# Altium footprint library 470uF.PcbLib: 1 footprints
Each footprint in its own frame and in the unit in brackets; x right, y up, seen from the top. Pads: shape width x height; smd on the part's side, far side on the other; paste and mask are expansions set on the pad; w line width, h text height; cw(c..) or ccw(c..) is an arc to the next point about the centre after c.
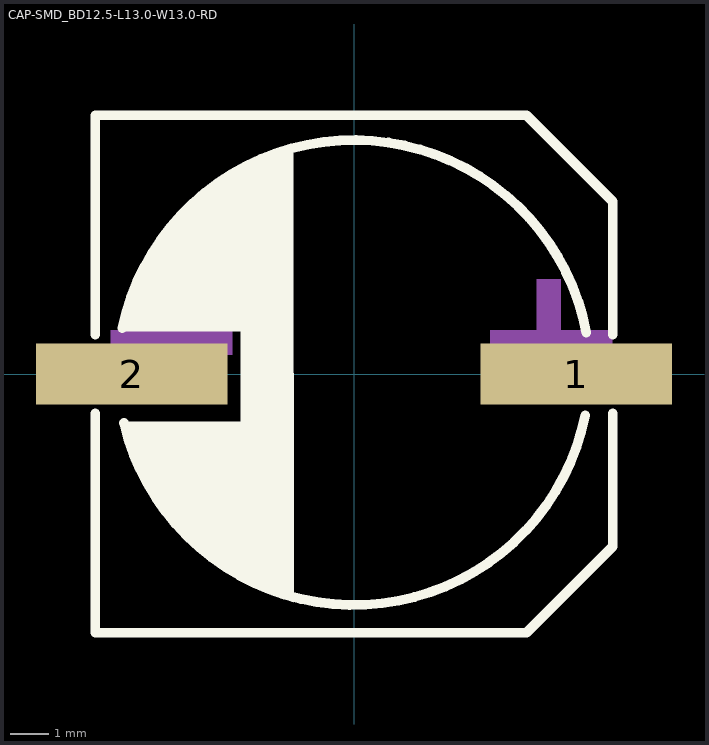
[diagram p0: the footprint, top view; thin cyan lines are the x and y axes]

## CAP-SMD_BD12.5-L13.0-W13.0-RD [mm]
pads (2):
  rect 5x1.6 smd: 1(5.8,0) 2(-5.8,0)
Top Overlay:
  region: -1.57,-5.92 -1.59,5.97 -2.25,5.72 -2.91,5.49 -3.42,5.16 -3.75,4.88 -4.24,4.55 -4.62,4.14 -5.07,3.56 -5.3,3.02 -5.58,2.62 -5.71,2.16 -5.89,1.74 -6,1.42 -6.04,1.16 -6.04,1.11 -2.95,1.12 -2.95,-0.05 -2.95,-1.23 -6,-1.25 -5.85,-1.83 -5.64,-2.45 -5.29,-3.13 -4.95,-3.7 -4.57,-4.12 -4.27,-4.45 -3.84,-4.82 -3.16,-5.25 -2.15,-5.75 -1.58,-5.95
  lines w0.254: -6.75,-1.031 -6.75,-6.75 4.5,-6.75 6.75,-4.5 6.75,-1.031 ; -6.75,1.031 -6.75,6.75 4.5,6.75 6.75,4.5 6.75,1.031 ; -6.044,1.191 cw(c-0.003,-0.068) 6.06,1.08 ; -6,-1.28 ccw(c-0.007,0.133) 6.03,-1.08
Mechanical 15:
  region: 3.556,1.143 6.731,1.143 6.731,0.508 3.556,0.508
  region: 4.763,-0.699 4.763,2.476 5.397,2.476 5.397,-0.699
  region: -6.35,1.143 -3.175,1.143 -3.175,0.508 -6.35,0.508